# Altium schematic symbol library 67298-3091.SchLib: 1 symbol
Pins are listed as number, name and electrical type; pins without a type are passive.

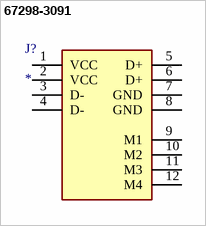
[diagram p0: symbol 67298-3091]

## 67298-3091
designator J?
Connector; Manufacturer_Name: Molex; Manufacturer_Part_Number: 67298-3091; Datasheet Link: http://www.molex.com/webdocs/datasheets/pdf/en-us//0672983091_IO_CONNECTORS.pdf; Mouser Part Number: 538-67298-3091; Mouser Price/Stock: https://www.mouser.co.uk/ProductDetail/Molex/67298-3091?qs=naUSJSqnqcIXoje%2FIC6j2Q%3D%3D
footprint 67298-3091
pins: 1 VCC, 2 VCC, 3 D-, 4 D-, 5 D+, 6 D+, 7 GND, 8 GND, 9 M1, 10 M2, 11 M3, 12 M4